# Altium schematic symbol library aiskylab-06Crystals.SchLib: 11 symbols
Pins are listed as number, name and electrical type; pins without a type are passive.

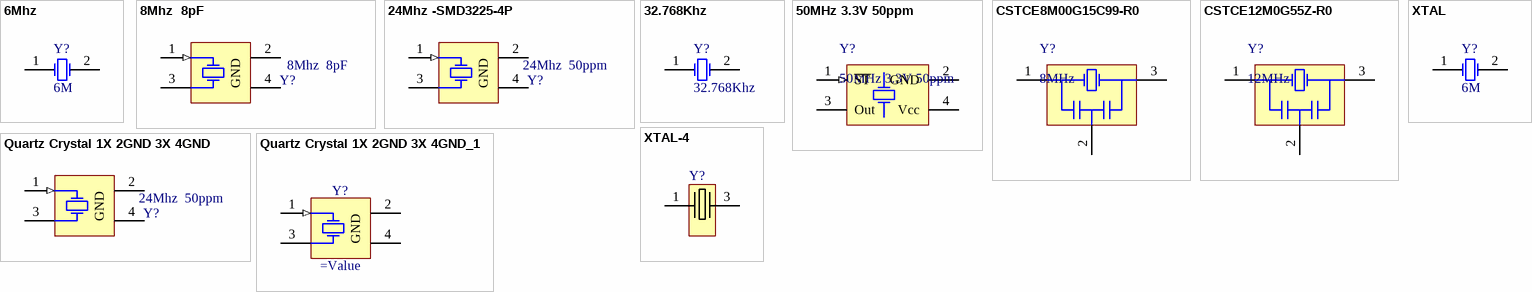
[diagram p0: symbols 6Mhz to XTAL-4]

## 6Mhz
designator Y?, comment 6M
Crystal Oscillator; Published: 8-Jun-2000; LatestRevisionDate: 17-Jul-2002; LatestRevisionNote: Re-released for DXP Platform.; PackageReference: R38; Publisher: Altium Limited
simulation model XTAL (Spice Subcircuit)
footprint HC-49U
pins: 1 OSC1, 2 OSC2

## 8Mhz  8pF
designator Y?
Crystal 4 pins 1=XTAL Control 2=GND3=XTAL 4=GND
footprint OSC_SI-TIME_SIT1602-2 (SiT1602 Oscillators Series, Version 3.2mmx2.5mm, Pitch 2.1mm; 4 Pin)
pins: 1 X (in), 2 GND (power), 3 X (power), 4 GND (power)

## 24Mhz -SMD3225-4P
designator Y?, comment 24Mhz  50ppm
Crystal 4 pins 1=XTAL Control 2=GND3=XTAL 4=GND
footprint OSC_SI-TIME_SIT1602-2 (SiT1602 Oscillators Series, Version 3.2mmx2.5mm, Pitch 2.1mm; 4 Pin)
pins: 1 X (in), 2 GND (power), 3 X (power), 4 GND (power)

## 32.768Khz
designator Y?
Crystal Oscillator; Published: 8-Jun-2000; LatestRevisionDate: 17-Jul-2002; LatestRevisionNote: Re-released for DXP Platform.; PackageReference: R38; Publisher: Altium Limited
footprint Y_3215-2
pins: 1 OSC1, 2 OSC2

## 50MHz 3.3V 50ppm
designator Y?
有源晶振
footprint Y_3225-4
pins: 1 ~{ST} (in), 2 GND (power), 3 Out (power), 4 Vcc (power)

## CSTCE8M00G15C99-R0
designator Y?, comment 8MHz
贴片晶振; Manufacturer: Murata; Manufacturer Part Number: CSTCE8M00G15C99-R0; Description: MURATA         CSTCE8M00G15C99-R0             RESONATOR, CERAMIC, 8MHZ, SMD; Load Capacitance: 39pF; Frequency Tolerance: 0.1%; Capacitance: 33pF; Frequency Stability: 0.13%; Supplier 1: Farnell; RoHS: Yes; Category: Capacitors; Pricing 1: 5=0.56700, 50=0.43600, 250=0.41500, 500=0.36100, 1500=0.30600, 3000=0.25200, 15000=0.24700 (GBP); Mount: Surface Mount; Case/Package: SMD/SMT; Number of Pins: 3; Contact Plating: Gold; Min Operating Temperature: -40°C; Max Operating Temperature: 125°C; Resistor Type: Ceramic; Termination: SMD/SMT; Self Resonant Frequency: 8MHz; Package Quantity: 3000; Packaging: Tape and Reel; Frequency: 8MHz; Tolerance: 0.1%; Length: 0.126inch; Width: 0.051inch; Height: 0.031inch; REACH SVHC: No SVHC; Lead Free: Lead Free; ComponentLink1URL: https://datasheet.ciiva.com/29617/l0430e-29617909.pdf?src-supplier=Digi-Key; ComponentLink1Description: https://datasheet.ciiva.com/29617/l0430e-29617909.pdf?src-supplier=Digi-Key; ComponentLink2URL: https://datasheet.ciiva.com/29617/l0430e-29617910.pdf?src-supplier=Digi-Key; ComponentLink2Description: https://datasheet.ciiva.com/29617/l0430e-29617910.pdf?src-supplier=Digi-Key; ComponentLink3URL: https://datasheet.ciiva.com/29617/l0430e-29617911.pdf?src-supplier=Digi-Key; ComponentLink3Description: https://datasheet.ciiva.com/29617/l0430e-29617911.pdf?src-supplier=Digi-Key; ComponentLink4URL: https://datasheet.ciiva.com/14132/cstce-g15-v13-eng-tds-14132701.pdf?src-supplier=Distrelec; ComponentLink4Description: https://datasheet.ciiva.com/14132/cstce-g15-v13-eng-tds-14132701.pdf?src-supplier=Distrelec; ComponentLink5URL: https://datasheet.ciiva.com/16498/l0430e-16498141.pdf?src-supplier=Future+Electronics; ComponentLink5Description: https://datasheet.ciiva.com/16498/l0430e-16498141.pdf?src-supplier=Future+Electronics; Supplier Part Number 1: 2470360
pins: 1 X1, 2 GND (power), 3 X2

## CSTCE12M0G55Z-R0
designator Y?, comment 12MHz
贴片晶振; Manufacturer: Murata; Impedance: 30Ohm; Frequency Stability: ±0.2%; Catalog Drawings: CSTCE-(G,V)SeriesSide2 / CSTCE-(G,V)SeriesTop / CSTCE-(G,V)SeriesSide1 / CSTCE-(G,V)SeriesBottom; Dynamic Catalog: CERALOCK®,CSTCESeries; Other Names: 490-1220-6; Capacitance: 33pF; Frequency Tolerance: ±0.5%; 状态: 停产; Size / Dimension: 0.126"Lx0.051"W(3.20mmx1.30mm); Operating Temperature: -40°C~125°C; Packaging: Digi-Reel®; Family: Resonators; Datasheet Version: 12/2015; Mounting Technology: SurfaceMount; Frequency: 12MHz; Package Reference: CSTCE_G; Series: CERALOCK®; Height: 0.031"(0.80mm); Standard Package: 1; Datasheet URL: http://www.murata.com/~/media/webrenewal/support/library/catalog/products/timingdevice/ceralock/p16e.ashx; Package / Case: 3-SMD,Non-Standard; Features: BuiltinCapacitor; Manufacturer URL: http://www.murata.com/; Category: CrystalsandOscillators; Mounting Type: SurfaceMount; Package Description: 3-Pin Surface Mount Device, Body 3.2 x 1.3 mm, Pitch 1.2 mm; Type: Ceramic; ComponentLink1Description: Datasheet; ComponentLink1URL: http://www.murata.com/~/media/webrenewal/support/library/catalog/products/timingdevice/ceralock/p16e.ashx
footprint MURA-CSTCE_G_V (SMD, 3-Leads, Body 3.2x1.3mm, Pitch 1.2mm)
pins: 1 X1, 2 GND (power), 3 X2

## Quartz Crystal 1X 2GND 3X 4GND
designator Y?, comment 24Mhz  50ppm
贴片晶振 Crystal 4 pins 1=XTAL Control 2=GND3=XTAL 4=GND
footprint OSC_SI-TIME_SIT1602-2 (SiT1602 Oscillators Series, Version 3.2mmx2.5mm, Pitch 2.1mm; 4 Pin)
pins: 1 X (in), 2 GND (power), 3 X (power), 4 GND (power)

## Quartz Crystal 1X 2GND 3X 4GND_1
designator Y?
贴片晶振 Crystal 4 pins 1=XTAL Control 2=GND3=XTAL 4=GND; ComponentLink1Description: Datasheet; ComponentLink1URL: https://item.szlcsc.com/71701.html
footprint XTAL_EPSON_TSX-3225 (Oscillator TSX-3225 Serie, Corner Concave; 4 pin, 2.50mm L X 3.2mm W X 0.6mm H)
pins: 1 X (in), 2 GND (power), 3 X (power), 4 GND (power)

## XTAL
designator Y?, comment 6M
贴片晶振 Crystal Oscillator; Published: 8-Jun-2000; LatestRevisionDate: 17-Jul-2002; LatestRevisionNote: Re-released for DXP Platform.; PackageReference: R38; Publisher: Altium Limited
simulation model XTAL (Spice Subcircuit)
footprint HC-49U
pins: 1 OSC1, 2 OSC2

## XTAL-4
designator Y?, comment 8MHz  (value not drawn)
贴片晶振; VALUE: 8MHz
footprint OSC_SI-TIME_SIT1602-2 (SiT1602 Oscillators Series, Version 3.2mmx2.5mm, Pitch 2.1mm; 4 Pin)
pins: 1, 2 GND (power) hidden, 3, 4 GND (power) hidden